# Altium footprint library Antennas.PcbLib: 17 footprints (part 1 of 2)
Each footprint in its own frame and in the unit in brackets; x right, y up, seen from the top. Pads: shape width x height; smd on the part's side, far side on the other; paste and mask are expansions set on the pad; w line width, h text height; cw(c..) or ccw(c..) is an arc to the next point about the centre after c.
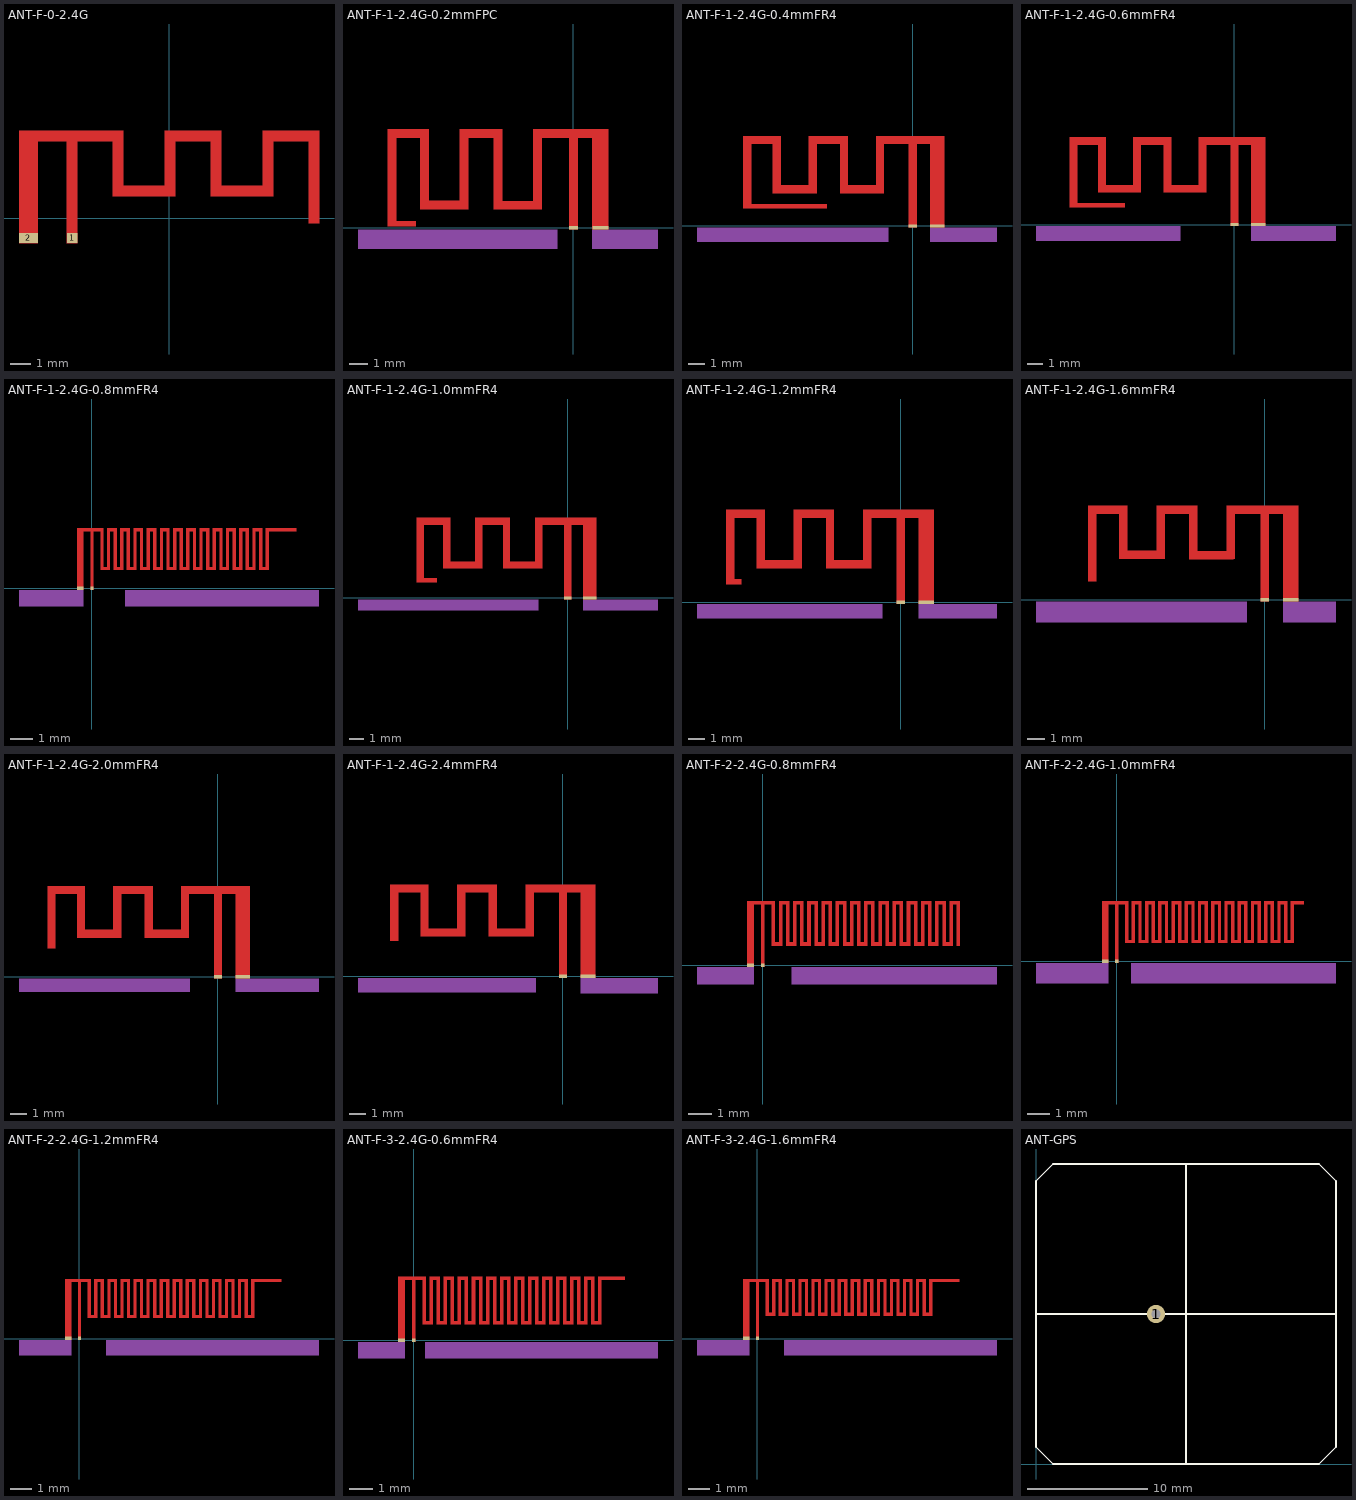
[diagram p0: the footprints below, top view; thin cyan lines are the x and y axes]

## ANT-F-0-2.4G [mm]
pads (2):
  rect 0.5x0.5 smd mask+2: 1(-4.65,-0.95)
  rect 0.9x0.5 smd mask+2: 2(-6.75,-0.95)
Top Layer:
  region: -7.2,-1.2 -6.3,-1.2 -6.3,3.7 -4.9,3.7 -4.9,-1.2 -4.4,-1.2 -4.4,3.7 -2.7,3.7 -2.7,1.06 0.3,1.06 0.3,3.7 2,3.7 2,1.06 5,1.06 5,3.7 6.7,3.7 6.7,-0.24 7.2,-0.24 7.2,4.2 4.5,4.2 4.5,1.56 2.5,1.56 2.5,4.2 -0.2,4.2 -0.2,1.56 -2.2,1.56 -2.2,4.2 -7.2,4.2
Top Solder:
  region: -7.2,-0.7 -6.3,-0.7 -6.3,3.7 -4.9,3.7 -4.9,-0.7 -4.4,-0.7 -4.4,3.7 -2.7,3.7 -2.7,1.06 0.3,1.06 0.3,3.7 2,3.7 2,1.06 5,1.06 5,3.7 6.7,3.7 6.7,-0.24 7.2,-0.24 7.2,4.2 4.5,4.2 4.5,1.56 2.5,1.56 2.5,4.2 -0.2,4.2 -0.2,1.56 -2.2,1.56 -2.2,4.2 -7.2,4.2

## ANT-F-1-2.4G-0.2mmFPC [mm]
pads (2):
  rect 0.5x0.2 smd mask+0: 1(0,0)
  rect 0.9x0.2 smd mask+0: 2(1.501,0)
Top Layer:
  rectangle: -10.35,0.06 -8.75,0.36
  region: 0.251,5.231 -0.249,5.231 -0.249,-0.1 0.251,-0.1
  region: 1.95,5.5 1.05,5.5 1.05,-0.1 1.95,-0.1
  region: 1.95,5.5 -2.25,5.5 -2.25,5 1.95,5
  region: -1.749,5.5 -2.25,5.5 -2.25,1 -1.749,1
  region: -1.749,1.495 -4.45,1.495 -4.45,1 -1.749,1
  region: -3.95,5.5 -4.45,5.5 -4.45,1 -3.95,1
  region: -3.95,5.5 -6.35,5.5 -6.35,5 -3.95,5
  region: -5.85,5.5 -6.35,5.5 -6.35,1 -5.85,1
  region: -5.85,1.5 -8.55,1.5 -8.55,1 -5.85,1
  region: -8.05,5.5 -8.55,5.5 -8.55,1 -8.05,1
  region: -8.05,5.5 -10.35,5.5 -10.35,5 -8.05,5
  region: -9.85,5.5 -10.35,5.5 -10.35,0.06 -9.85,0.06
Mechanical 13:
  rectangle: -11.99,-1.196 -0.89,-0.1
  rectangle: 1.05,-1.196 4.71,-0.1

## ANT-F-1-2.4G-0.4mmFR4 [mm]
pads (2):
  rect 0.5x0.2 smd mask+0.102: 1(0,0)
  rect 0.9x0.2 smd mask+0.102: 2(1.501,0)
Top Layer:
  region: -9.85,5.175 -10.35,5.175 -10.35,1.055 -9.85,1.055
  region: -8.05,5.495 -10.35,5.495 -10.35,4.995 -8.05,4.995
  region: -8.05,5.175 -8.55,5.175 -8.55,1.995 -8.05,1.995
  region: -5.864,2.495 -8.354,2.495 -8.354,1.995 -5.864,1.995
  region: -5.85,5.175 -6.35,5.175 -6.35,1.995 -5.85,1.995
  region: -3.95,5.495 -6.35,5.495 -6.35,4.995 -3.95,4.995
  region: -3.95,5.175 -4.45,5.175 -4.45,1.995 -3.95,1.995
  region: -1.84,2.495 -4.38,2.495 -4.38,1.995 -1.84,1.995
  region: -1.749,5.175 -2.249,5.175 -2.249,1.995 -1.749,1.995
  region: 1.95,5.495 -2.25,5.495 -2.25,4.995 1.95,4.995
  region: 1.95,5.2 1.05,5.2 1.05,-0.105 1.95,-0.105
  region: 0.251,5.226 -0.249,5.226 -0.249,-0.105 0.251,-0.105
  region: -5.25,1.355 -10.35,1.355 -10.35,1.055 -5.25,1.055
Mechanical 13:
  rectangle: -13.172,-0.979 -1.478,-0.105
  rectangle: 1.05,-0.979 5.145,-0.105

## ANT-F-1-2.4G-0.6mmFR4 [mm]
pads (2):
  rect 0.5x0.2 smd mask+0: 1(0,0)
  rect 0.9x0.2 smd mask+0: 2(1.501,0)
Top Layer:
  region: -6.85,1.36 -10.35,1.36 -10.35,1.06 -6.85,1.06
  region: 0.251,5.231 -0.249,5.231 -0.249,-0.1 0.251,-0.1
  region: 1.95,5.205 1.05,5.205 1.05,-0.1 1.95,-0.1
  region: 1.95,5.5 -2.25,5.5 -2.25,5 1.95,5
  region: -1.749,5.18 -2.249,5.18 -2.249,2 -1.749,2
  region: -1.84,2.5 -4.38,2.5 -4.38,2 -1.84,2
  region: -3.95,5.18 -4.45,5.18 -4.45,2 -3.95,2
  region: -3.95,5.5 -6.35,5.5 -6.35,5 -3.95,5
  region: -5.85,5.18 -6.35,5.18 -6.35,2 -5.85,2
  region: -5.864,2.5 -8.354,2.5 -8.354,2 -5.864,2
  region: -8.05,5.18 -8.55,5.18 -8.55,2 -8.05,2
  region: -8.05,5.5 -10.35,5.5 -10.35,5 -8.05,5
  region: -9.85,5.18 -10.35,5.18 -10.35,1.06 -9.85,1.06
Mechanical 13:
  rectangle: -12.449,-1.031 -3.384,-0.1
  rectangle: 1.05,-1.031 6.38,-0.1

## ANT-F-1-2.4G-0.8mmFR4 [mm]
pads (2):
  rect 0.15x0.15 smd mask+0: 1(0,0)
  rect 0.3x0.15 smd mask+0: 2(-0.525,0)
Top Layer:
  rectangle: -0.675,-0.075 -0.375,2.725
  rectangle: -0.075,-0.075 0.075,2.725
  region: 0.075,2.575 0.075,2.725 -0.675,2.725 -0.675,2.575
  rectangle: 0.375,0.825 0.525,2.725
  rectangle: 0.675,0.825 0.825,2.725
  rectangle: 0.975,0.825 1.125,2.725
  rectangle: 1.275,0.825 1.425,2.725
  rectangle: 1.575,0.825 1.725,2.725
  rectangle: 0.075,2.575 0.525,2.725
  rectangle: 0.675,2.575 1.125,2.725
  rectangle: 1.275,2.575 1.725,2.725
  rectangle: 0.375,0.825 0.825,0.975
  rectangle: 0.975,0.825 1.425,0.975
  rectangle: 2.175,0.825 2.625,0.975
  rectangle: 1.575,0.825 2.025,0.975
  rectangle: 2.475,2.575 2.925,2.725
  rectangle: 1.875,2.575 2.325,2.725
  rectangle: 2.775,0.825 2.925,2.725
  rectangle: 2.475,0.825 2.625,2.725
  rectangle: 2.175,0.825 2.325,2.725
  rectangle: 1.875,0.825 2.025,2.725
  rectangle: 3.375,0.825 3.825,0.975
  rectangle: 2.775,0.825 3.225,0.975
  rectangle: 3.675,2.575 4.125,2.725
  rectangle: 3.075,2.575 3.525,2.725
  rectangle: 3.975,0.825 4.125,2.725
  rectangle: 3.675,0.825 3.825,2.725
  rectangle: 3.375,0.825 3.525,2.725
  rectangle: 3.075,0.825 3.225,2.725
  rectangle: 4.575,0.825 5.025,0.975
  rectangle: 3.975,0.825 4.425,0.975
  rectangle: 4.875,2.575 5.325,2.725
  rectangle: 4.275,2.575 4.725,2.725
  rectangle: 5.175,0.825 5.325,2.725
  rectangle: 4.875,0.825 5.025,2.725
  rectangle: 4.575,0.825 4.725,2.725
  rectangle: 4.275,0.825 4.425,2.725
  rectangle: 5.775,0.825 6.225,0.975
  rectangle: 5.175,0.825 5.625,0.975
  rectangle: 6.075,2.575 6.525,2.725
  rectangle: 5.475,2.575 5.925,2.725
  rectangle: 6.375,0.825 6.525,2.725
  rectangle: 6.075,0.825 6.225,2.725
  rectangle: 5.775,0.825 5.925,2.725
  rectangle: 5.475,0.825 5.625,2.725
  rectangle: 6.975,0.825 7.425,0.975
  rectangle: 6.375,0.825 6.825,0.975
  rectangle: 7.275,2.575 7.725,2.725
  rectangle: 6.675,2.575 7.125,2.725
  rectangle: 7.575,0.825 7.725,2.725
  rectangle: 7.275,0.825 7.425,2.725
  rectangle: 6.975,0.825 7.125,2.725
  rectangle: 6.675,0.825 6.825,2.725
  rectangle: 7.575,0.825 8.025,0.975
  rectangle: 7.875,2.575 9.275,2.725
  rectangle: 7.875,0.825 8.025,2.725
Mechanical 13:
  rectangle: -3.312,-0.822 -0.375,-0.075
  rectangle: 1.506,-0.822 10.3,-0.075

## ANT-F-1-2.4G-1.0mmFR4 [mm]
pads (2):
  rect 0.5x0.2 smd mask+0: 1(0,0)
  rect 0.9x0.2 smd mask+0: 2(1.501,0)
Top Layer:
  region: -8.951,1.36 -10.351,1.36 -10.351,1.06 -8.951,1.06
  region: 0.25,5.231 -0.25,5.231 -0.25,-0.1 0.25,-0.1
  region: 1.949,5.205 1.049,5.205 1.049,-0.1 1.949,-0.1
  region: 1.949,5.5 -2.251,5.5 -2.251,5 1.949,5
  region: -1.75,5.18 -2.25,5.18 -2.25,2 -1.75,2
  region: -1.841,2.5 -4.381,2.5 -4.381,2 -1.841,2
  region: -3.951,5.18 -4.451,5.18 -4.451,2 -3.951,2
  region: -3.951,5.5 -6.351,5.5 -6.351,5 -3.951,5
  region: -5.851,5.18 -6.351,5.18 -6.351,2 -5.851,2
  region: -5.865,2.5 -8.354,2.5 -8.354,2 -5.865,2
  region: -8.051,5.18 -8.551,5.18 -8.551,2 -8.051,2
  region: -8.051,5.5 -10.351,5.5 -10.351,5 -8.051,5
  region: -9.851,5.18 -10.351,5.18 -10.351,1.06 -9.851,1.06
Mechanical 13:
  rectangle: 1.049,-0.863 6.172,-0.1
  rectangle: -14.369,-0.863 -2.025,-0.1

## ANT-F-1-2.4G-1.2mmFR4 [mm]
pads (2):
  rect 0.5x0.2 smd mask+0: 1(0,0)
  rect 0.9x0.2 smd mask+0: 2(1.501,0)
Top Layer:
  region: -9.451,1.36 -10.351,1.36 -10.351,1.06 -9.451,1.06
  region: 0.25,5.231 -0.25,5.231 -0.25,-0.1 0.25,-0.1
  region: 1.949,5.205 1.049,5.205 1.049,-0.1 1.949,-0.1
  region: 1.95,5.5 -2.25,5.5 -2.25,5 1.95,5
  region: -1.75,5.18 -2.25,5.18 -2.25,2 -1.75,2
  region: -1.84,2.5 -4.38,2.5 -4.38,2 -1.84,2
  region: -3.95,5.18 -4.45,5.18 -4.45,2 -3.95,2
  region: -3.95,5.5 -6.35,5.5 -6.35,5 -3.95,5
  region: -5.851,5.18 -6.351,5.18 -6.351,2 -5.851,2
  region: -5.865,2.5 -8.354,2.5 -8.354,2 -5.865,2
  region: -8.051,5.18 -8.551,5.18 -8.551,2 -8.051,2
  region: -8.05,5.5 -10.35,5.5 -10.35,5 -8.05,5
  region: -9.85,5.18 -10.35,5.18 -10.35,1.06 -9.85,1.06
Mechanical 13:
  rectangle: 1.049,-0.978 5.689,-0.1
  rectangle: -12.076,-0.978 -1.083,-0.1

## ANT-F-1-2.4G-1.6mmFR4 [mm]
pads (2):
  rect 0.5x0.2 smd mask+0: 1(0,0)
  rect 0.9x0.2 smd mask+0: 2(1.501,0)
Top Layer:
  region: -9.851,5.18 -10.351,5.18 -10.351,1.06 -9.851,1.06
  region: -8.051,5.5 -10.351,5.5 -10.351,5 -8.051,5
  region: -8.051,5.181 -8.551,5.181 -8.551,2.361 -8.051,2.361
  region: -5.865,2.861 -8.354,2.861 -8.354,2.361 -5.865,2.361
  region: -5.851,5.181 -6.351,5.181 -6.351,2.361 -5.851,2.361
  region: -3.951,5.5 -6.351,5.5 -6.351,5 -3.951,5
  region: -3.951,5.18 -4.451,5.18 -4.451,2.36 -3.951,2.36
  region: -1.841,2.855 -4.381,2.855 -4.381,2.36 -1.841,2.36
  region: -1.75,5.181 -2.25,5.181 -2.25,2.361 -1.75,2.361
  region: 1.949,5.5 -2.251,5.5 -2.251,5 1.949,5
  region: 1.949,5.206 1.049,5.206 1.049,-0.1 1.949,-0.1
  region: 0.25,5.231 -0.25,5.231 -0.25,-0.1 0.25,-0.1
Mechanical 13:
  rectangle: -13.398,-1.335 -1.054,-0.1
  rectangle: 1.049,-1.335 4.158,-0.1

## ANT-F-1-2.4G-2.0mmFR4 [mm]
pads (2):
  rect 0.5x0.2 smd mask+0: 1(0,0)
  rect 0.9x0.2 smd mask+0: 2(1.501,0)
Top Layer:
  region: 0.25,5.231 -0.25,5.231 -0.25,-0.1 0.25,-0.1
  region: 1.949,5.206 1.049,5.206 1.049,-0.1 1.949,-0.1
  region: 1.95,5.5 -2.25,5.5 -2.25,5 1.95,5
  region: -1.75,5.181 -2.25,5.181 -2.25,2.361 -1.75,2.361
  region: -1.84,2.855 -4.38,2.855 -4.38,2.36 -1.84,2.36
  region: -3.95,5.18 -4.45,5.18 -4.45,2.36 -3.95,2.36
  region: -3.95,5.5 -6.35,5.5 -6.35,5 -3.95,5
  region: -5.851,5.181 -6.351,5.181 -6.351,2.361 -5.851,2.361
  region: -5.865,2.861 -8.354,2.861 -8.354,2.361 -5.865,2.361
  region: -8.051,5.181 -8.551,5.181 -8.551,2.361 -8.051,2.361
  region: -8.05,5.5 -10.35,5.5 -10.35,5 -8.05,5
  region: -9.85,5.18 -10.35,5.18 -10.35,1.7 -9.85,1.7
Mechanical 13:
  rectangle: 1.049,-0.928 6.123,-0.1
  rectangle: -12.063,-0.928 -1.71,-0.1

## ANT-F-1-2.4G-2.4mmFR4 [mm]
pads (2):
  rect 0.5x0.2 smd mask+0: 1(0,0)
  rect 0.9x0.2 smd mask+0: 2(1.501,0)
Top Layer:
  region: 0.25,5.231 -0.25,5.231 -0.25,-0.1 0.25,-0.1
  region: 1.949,5.206 1.049,5.206 1.049,-0.1 1.949,-0.1
  region: 1.95,5.5 -2.25,5.5 -2.25,5 1.95,5
  region: -1.75,5.181 -2.25,5.181 -2.25,2.361 -1.75,2.361
  region: -1.84,2.855 -4.38,2.855 -4.38,2.36 -1.84,2.36
  region: -3.95,5.18 -4.45,5.18 -4.45,2.36 -3.95,2.36
  region: -3.95,5.5 -6.35,5.5 -6.35,5 -3.95,5
  region: -5.851,5.181 -6.351,5.181 -6.351,2.361 -5.851,2.361
  region: -5.865,2.861 -8.354,2.861 -8.354,2.361 -5.865,2.361
  region: -8.051,5.181 -8.551,5.181 -8.551,2.361 -8.051,2.361
  region: -8.05,5.5 -10.35,5.5 -10.35,5 -8.05,5
  region: -9.85,5.18 -10.35,5.18 -10.35,2.1 -9.85,2.1
Mechanical 13:
  rectangle: 1.049,-1.05 5.692,-0.1
  rectangle: -12.281,-0.983 -1.61,-0.1

## ANT-F-2-2.4G-0.8mmFR4 [mm]
pads (2):
  rect 0.15x0.15 smd mask+0: 1(0,0)
  rect 0.3x0.15 smd mask+0: 2(-0.525,0)
Top Layer:
  rectangle: 7.875,2.575 8.325,2.725
  rectangle: 8.175,0.825 8.325,2.725
  rectangle: -0.675,-0.075 -0.375,2.725
  rectangle: -0.075,-0.075 0.075,2.725
  region: 0.075,2.575 0.075,2.725 -0.675,2.725 -0.675,2.575
  rectangle: 0.375,0.825 0.525,2.725
  rectangle: 0.675,0.825 0.825,2.725
  rectangle: 0.975,0.825 1.125,2.725
  rectangle: 1.275,0.825 1.425,2.725
  rectangle: 1.575,0.825 1.725,2.725
  rectangle: -0.075,2.575 0.525,2.725
  rectangle: 0.675,2.575 1.125,2.725
  rectangle: 1.275,2.575 1.725,2.725
  rectangle: 0.375,0.825 0.825,0.975
  rectangle: 0.975,0.825 1.425,0.975
  rectangle: 2.175,0.825 2.625,0.975
  rectangle: 1.575,0.825 2.025,0.975
  rectangle: 2.475,2.575 2.925,2.725
  rectangle: 1.875,2.575 2.325,2.725
  rectangle: 2.775,0.825 2.925,2.725
  rectangle: 2.475,0.825 2.625,2.725
  rectangle: 2.175,0.825 2.325,2.725
  rectangle: 1.875,0.825 2.025,2.725
  rectangle: 3.375,0.825 3.825,0.975
  rectangle: 2.775,0.825 3.225,0.975
  rectangle: 3.675,2.575 4.125,2.725
  rectangle: 3.075,2.575 3.525,2.725
  rectangle: 3.975,0.825 4.125,2.725
  rectangle: 3.675,0.825 3.825,2.725
  rectangle: 3.375,0.825 3.525,2.725
  rectangle: 3.075,0.825 3.225,2.725
  rectangle: 4.575,0.825 5.025,0.975
  rectangle: 3.975,0.825 4.425,0.975
  rectangle: 4.875,2.575 5.325,2.725
  rectangle: 4.275,2.575 4.725,2.725
  rectangle: 5.175,0.825 5.325,2.725
  rectangle: 4.875,0.825 5.025,2.725
  rectangle: 4.575,0.825 4.725,2.725
  rectangle: 4.275,0.825 4.425,2.725
  rectangle: 5.775,0.825 6.225,0.975
  rectangle: 5.175,0.825 5.625,0.975
  rectangle: 6.075,2.575 6.525,2.725
  rectangle: 5.475,2.575 5.925,2.725
  rectangle: 6.375,0.825 6.525,2.725
  rectangle: 6.075,0.825 6.225,2.725
  rectangle: 5.775,0.825 5.925,2.725
  rectangle: 5.475,0.825 5.625,2.725
  rectangle: 6.975,0.825 7.425,0.975
  rectangle: 6.375,0.825 6.825,0.975
  rectangle: 7.275,2.575 7.725,2.725
  rectangle: 6.675,2.575 7.125,2.725
  rectangle: 7.575,0.825 7.725,2.725
  rectangle: 7.275,0.825 7.425,2.725
  rectangle: 6.975,0.825 7.125,2.725
  rectangle: 6.675,0.825 6.825,2.725
  rectangle: 7.575,0.825 8.025,0.975
  rectangle: 7.875,0.825 8.025,2.725
Mechanical 13:
  rectangle: 1.215,-0.802 9.885,-0.075
  rectangle: -2.777,-0.802 -0.375,-0.075

## ANT-F-2-2.4G-1.0mmFR4 [mm]
pads (2):
  rect 0.15x0.15 smd mask+0: 1(0,0)
  rect 0.3x0.15 smd mask+0: 2(-0.525,0)
Top Layer:
  rectangle: 7.875,2.575 8.475,2.725
  rectangle: 7.875,0.825 8.025,2.725
  rectangle: 7.575,0.825 8.025,0.975
  rectangle: 6.675,0.825 6.825,2.725
  rectangle: 6.975,0.825 7.125,2.725
  rectangle: 7.275,0.825 7.425,2.725
  rectangle: 7.575,0.825 7.725,2.725
  rectangle: 6.675,2.575 7.125,2.725
  rectangle: 7.275,2.575 7.725,2.725
  rectangle: 6.375,0.825 6.825,0.975
  rectangle: 6.975,0.825 7.425,0.975
  rectangle: 5.475,0.825 5.625,2.725
  rectangle: 5.775,0.825 5.925,2.725
  rectangle: 6.075,0.825 6.225,2.725
  rectangle: 6.375,0.825 6.525,2.725
  rectangle: 5.475,2.575 5.925,2.725
  rectangle: 6.075,2.575 6.525,2.725
  rectangle: 5.175,0.825 5.625,0.975
  rectangle: 5.775,0.825 6.225,0.975
  rectangle: 4.275,0.825 4.425,2.725
  rectangle: 4.575,0.825 4.725,2.725
  rectangle: 4.875,0.825 5.025,2.725
  rectangle: 5.175,0.825 5.325,2.725
  rectangle: 4.275,2.575 4.725,2.725
  rectangle: 4.875,2.575 5.325,2.725
  rectangle: 3.975,0.825 4.425,0.975
  rectangle: 4.575,0.825 5.025,0.975
  rectangle: 3.075,0.825 3.225,2.725
  rectangle: 3.375,0.825 3.525,2.725
  rectangle: 3.675,0.825 3.825,2.725
  rectangle: 3.975,0.825 4.125,2.725
  rectangle: 3.075,2.575 3.525,2.725
  rectangle: 3.675,2.575 4.125,2.725
  rectangle: 2.775,0.825 3.225,0.975
  rectangle: 3.375,0.825 3.825,0.975
  rectangle: 1.875,0.825 2.025,2.725
  rectangle: 2.175,0.825 2.325,2.725
  rectangle: 2.475,0.825 2.625,2.725
  rectangle: 2.775,0.825 2.925,2.725
  rectangle: 1.875,2.575 2.325,2.725
  rectangle: 2.475,2.575 2.925,2.725
  rectangle: 1.575,0.825 2.025,0.975
  rectangle: 2.175,0.825 2.625,0.975
  rectangle: 0.975,0.825 1.425,0.975
  rectangle: 0.375,0.825 0.825,0.975
  rectangle: 1.275,2.575 1.725,2.725
  rectangle: 0.675,2.575 1.125,2.725
  rectangle: 0.075,2.575 0.525,2.725
  rectangle: 1.575,0.825 1.725,2.725
  rectangle: 1.275,0.825 1.425,2.725
  rectangle: 0.975,0.825 1.125,2.725
  rectangle: 0.675,0.825 0.825,2.725
  rectangle: 0.375,0.825 0.525,2.725
  region: 0.075,2.575 0.075,2.725 -0.675,2.725 -0.675,2.575
  rectangle: -0.075,-0.075 0.075,2.725
  rectangle: -0.675,-0.075 -0.375,2.725
Mechanical 13:
  rectangle: 0.633,-1.001 9.934,-0.075
  rectangle: -3.664,-1.001 -0.375,-0.075

## ANT-F-2-2.4G-1.2mmFR4 [mm]
pads (2):
  rect 0.15x0.15 smd mask+0: 1(0,0.025)
  rect 0.3x0.15 smd mask+0: 2(-0.525,0.025)
Top Layer:
  rectangle: -0.675,-0.05 -0.375,2.75
  rectangle: -0.075,-0.05 0.075,2.75
  region: 0.075,2.6 0.075,2.75 -0.675,2.75 -0.675,2.6
  rectangle: 0.375,0.95 0.525,2.75
  rectangle: 0.675,0.95 0.825,2.75
  rectangle: 0.975,0.95 1.125,2.75
  rectangle: 1.275,0.95 1.425,2.75
  rectangle: 1.575,0.95 1.725,2.75
  rectangle: 0.075,2.6 0.525,2.75
  rectangle: 0.675,2.6 1.125,2.75
  rectangle: 1.275,2.6 1.725,2.75
  rectangle: 0.375,0.95 0.825,1.1
  rectangle: 0.975,0.95 1.425,1.1
  rectangle: 2.175,0.95 2.625,1.1
  rectangle: 1.575,0.95 2.025,1.1
  rectangle: 2.475,2.6 2.925,2.75
  rectangle: 1.875,2.6 2.325,2.75
  rectangle: 2.775,0.95 2.925,2.75
  rectangle: 2.475,0.95 2.625,2.75
  rectangle: 2.175,0.95 2.325,2.75
  rectangle: 1.875,0.95 2.025,2.75
  rectangle: 3.375,0.95 3.825,1.1
  rectangle: 2.775,0.95 3.225,1.1
  rectangle: 3.675,2.6 4.125,2.75
  rectangle: 3.075,2.6 3.525,2.75
  rectangle: 3.975,0.95 4.125,2.75
  rectangle: 3.675,0.95 3.825,2.75
  rectangle: 3.375,0.95 3.525,2.75
  rectangle: 3.075,0.95 3.225,2.75
  rectangle: 4.575,0.95 5.025,1.1
  rectangle: 3.975,0.95 4.425,1.1
  rectangle: 4.875,2.6 5.325,2.75
  rectangle: 4.275,2.6 4.725,2.75
  rectangle: 5.175,0.95 5.325,2.75
  rectangle: 4.875,0.95 5.025,2.75
  rectangle: 4.575,0.95 4.725,2.75
  rectangle: 4.275,0.95 4.425,2.75
  rectangle: 5.775,0.95 6.225,1.1
  rectangle: 5.175,0.95 5.625,1.1
  rectangle: 6.075,2.6 6.525,2.75
  rectangle: 5.475,2.6 5.925,2.75
  rectangle: 6.375,0.95 6.525,2.75
  rectangle: 6.075,0.95 6.225,2.75
  rectangle: 5.775,0.95 5.925,2.75
  rectangle: 5.475,0.95 5.625,2.75
  rectangle: 6.975,0.95 7.425,1.1
  rectangle: 6.375,0.95 6.825,1.1
  rectangle: 7.275,2.6 7.725,2.75
  rectangle: 6.675,2.6 7.125,2.75
  rectangle: 7.575,0.95 7.725,2.75
  rectangle: 7.275,0.95 7.425,2.75
  rectangle: 6.975,0.95 7.125,2.75
  rectangle: 6.675,0.95 6.825,2.75
  rectangle: 7.575,0.95 8.025,1.1
  rectangle: 7.875,2.6 9.275,2.75
  rectangle: 7.875,0.95 8.025,2.75
Mechanical 13:
  rectangle: -2.777,-0.777 -0.375,-0.05
  rectangle: 1.215,-0.777 10.994,-0.05

## ANT-F-3-2.4G-0.6mmFR4 [mm]
pads (2):
  rect 0.15x0.15 smd mask+0: 1(0,0)
  rect 0.3x0.15 smd mask+0: 2(-0.525,0)
Top Layer:
  rectangle: 7.875,0.675 8.025,2.725
  rectangle: 7.875,2.575 9.025,2.725
  rectangle: 7.575,0.675 8.025,0.825
  rectangle: 6.675,0.675 6.825,2.725
  rectangle: 6.975,0.675 7.125,2.725
  rectangle: 7.275,0.675 7.425,2.725
  rectangle: 7.575,0.675 7.725,2.725
  rectangle: 6.675,2.575 7.125,2.725
  rectangle: 7.275,2.575 7.725,2.725
  rectangle: 6.375,0.675 6.825,0.825
  rectangle: 6.975,0.675 7.425,0.825
  rectangle: 5.475,0.675 5.625,2.725
  rectangle: 5.775,0.675 5.925,2.725
  rectangle: 6.075,0.675 6.225,2.725
  rectangle: 6.375,0.675 6.525,2.725
  rectangle: 5.475,2.575 5.925,2.725
  rectangle: 6.075,2.575 6.525,2.725
  rectangle: 5.175,0.675 5.625,0.825
  rectangle: 5.775,0.675 6.225,0.825
  rectangle: 4.275,0.675 4.425,2.725
  rectangle: 4.575,0.675 4.725,2.725
  rectangle: 4.875,0.675 5.025,2.725
  rectangle: 5.175,0.675 5.325,2.725
  rectangle: 4.275,2.575 4.725,2.725
  rectangle: 4.875,2.575 5.325,2.725
  rectangle: 3.975,0.675 4.425,0.825
  rectangle: 4.575,0.675 5.025,0.825
  rectangle: 3.075,0.675 3.225,2.725
  rectangle: 3.375,0.675 3.525,2.725
  rectangle: 3.675,0.675 3.825,2.725
  rectangle: 3.975,0.675 4.125,2.725
  rectangle: 3.075,2.575 3.525,2.725
  rectangle: 3.675,2.575 4.125,2.725
  rectangle: 2.775,0.675 3.225,0.825
  rectangle: 3.375,0.675 3.825,0.825
  rectangle: 1.875,0.675 2.025,2.725
  rectangle: 2.175,0.675 2.325,2.725
  rectangle: 2.475,0.675 2.625,2.725
  rectangle: 2.775,0.675 2.925,2.725
  rectangle: 1.875,2.575 2.325,2.725
  rectangle: 2.475,2.575 2.925,2.725
  rectangle: 1.575,0.675 2.025,0.825
  rectangle: 2.175,0.675 2.625,0.825
  rectangle: 0.975,0.675 1.425,0.825
  rectangle: 0.375,0.675 0.825,0.825
  rectangle: 1.275,2.575 1.725,2.725
  rectangle: 0.675,2.575 1.125,2.725
  rectangle: 0.075,2.575 0.525,2.725
  rectangle: 1.575,0.675 1.725,2.725
  rectangle: 1.275,0.675 1.425,2.725
  rectangle: 0.975,0.675 1.125,2.725
  rectangle: 0.675,0.675 0.825,2.725
  rectangle: 0.375,0.675 0.525,2.725
  region: 0.075,2.575 0.075,2.725 -0.675,2.725 -0.675,2.575
  rectangle: -0.075,-0.075 0.075,2.725
  rectangle: -0.675,-0.075 -0.375,2.725
Mechanical 13:
  rectangle: 0.484,-0.765 10.438,-0.075
  rectangle: -2.388,-0.765 -0.375,-0.075

## ANT-F-3-2.4G-1.6mmFR4 [mm]
pads (2):
  rect 0.15x0.15 smd mask+0: 1(0,0.025)
  rect 0.3x0.15 smd mask+0: 2(-0.525,0.025)
Top Layer:
  rectangle: -0.675,-0.05 -0.375,2.75
  rectangle: -0.075,-0.05 0.075,2.75
  region: 0.075,2.6 0.075,2.75 -0.675,2.75 -0.675,2.6
  rectangle: 0.375,1.05 0.525,2.75
  rectangle: 0.675,1.05 0.825,2.75
  rectangle: 0.975,1.05 1.125,2.75
  rectangle: 1.275,1.05 1.425,2.75
  rectangle: 1.575,1.05 1.725,2.75
  rectangle: 0.075,2.6 0.525,2.75
  rectangle: 0.675,2.6 1.125,2.75
  rectangle: 1.275,2.6 1.725,2.75
  rectangle: 0.375,1.05 0.825,1.2
  rectangle: 0.975,1.05 1.425,1.2
  rectangle: 2.175,1.05 2.625,1.2
  rectangle: 1.575,1.05 2.025,1.2
  rectangle: 2.475,2.6 2.925,2.75
  rectangle: 1.875,2.6 2.325,2.75
  rectangle: 2.775,1.05 2.925,2.75
  rectangle: 2.475,1.05 2.625,2.75
  rectangle: 2.175,1.05 2.325,2.75
  rectangle: 1.875,1.05 2.025,2.75
  rectangle: 3.375,1.05 3.825,1.2
  rectangle: 2.775,1.05 3.225,1.2
  rectangle: 3.675,2.6 4.125,2.75
  rectangle: 3.075,2.6 3.525,2.75
  rectangle: 3.975,1.05 4.125,2.75
  rectangle: 3.675,1.05 3.825,2.75
  rectangle: 3.375,1.05 3.525,2.75
  rectangle: 3.075,1.05 3.225,2.75
  rectangle: 4.575,1.05 5.025,1.2
  rectangle: 3.975,1.05 4.425,1.2
  rectangle: 4.875,2.6 5.325,2.75
  rectangle: 4.275,2.6 4.725,2.75
  rectangle: 5.175,1.05 5.325,2.75
  rectangle: 4.875,1.05 5.025,2.75
  rectangle: 4.575,1.05 4.725,2.75
  rectangle: 4.275,1.05 4.425,2.75
  rectangle: 5.775,1.05 6.225,1.2
  rectangle: 5.175,1.05 5.625,1.2
  rectangle: 6.075,2.6 6.525,2.75
  rectangle: 5.475,2.6 5.925,2.75
  rectangle: 6.375,1.05 6.525,2.75
  rectangle: 6.075,1.05 6.225,2.75
  rectangle: 5.775,1.05 5.925,2.75
  rectangle: 5.475,1.05 5.625,2.75
  rectangle: 6.975,1.05 7.425,1.2
  rectangle: 6.375,1.05 6.825,1.2
  rectangle: 7.275,2.6 7.725,2.75
  rectangle: 6.675,2.6 7.125,2.75
  rectangle: 7.575,1.05 7.725,2.75
  rectangle: 7.275,1.05 7.425,2.75
  rectangle: 6.975,1.05 7.125,2.75
  rectangle: 6.675,1.05 6.825,2.75
  rectangle: 7.575,1.05 8.025,1.2
  rectangle: 7.875,2.6 9.275,2.75
  rectangle: 7.875,1.05 8.025,2.75
Mechanical 13:
  rectangle: 1.215,-0.777 10.994,-0.05
  rectangle: -2.777,-0.777 -0.375,-0.05

## ANT-GPS [mil]
pads (1):
  round 60 hole 30: 1(393.7,492.13)
Top Overlay:
  lines w5: 0,55.67 0,928.58 ; 0,492.13 984.25,492.13 ; 0.08,55.59 55.67,0 928.58,0 984.17,55.59 ; 0.08,928.66 55.67,984.25 928.58,984.25 984.17,928.66 ; 492.13,0 492.13,984.25 ; 984.25,55.67 984.25,928.58
3D body "零件1.STEP": height 98.43, standoff -70.87, extent 0,0 984.25,984.25